# Altium footprint library dvl.PcbLib: 2 footprints
Each footprint in its own frame and in the unit in brackets; x right, y up, seen from the top. Pads: shape width x height; smd on the part's side, far side on the other; paste and mask are expansions set on the pad; w line width, h text height; cw(c..) or ccw(c..) is an arc to the next point about the centre after c.
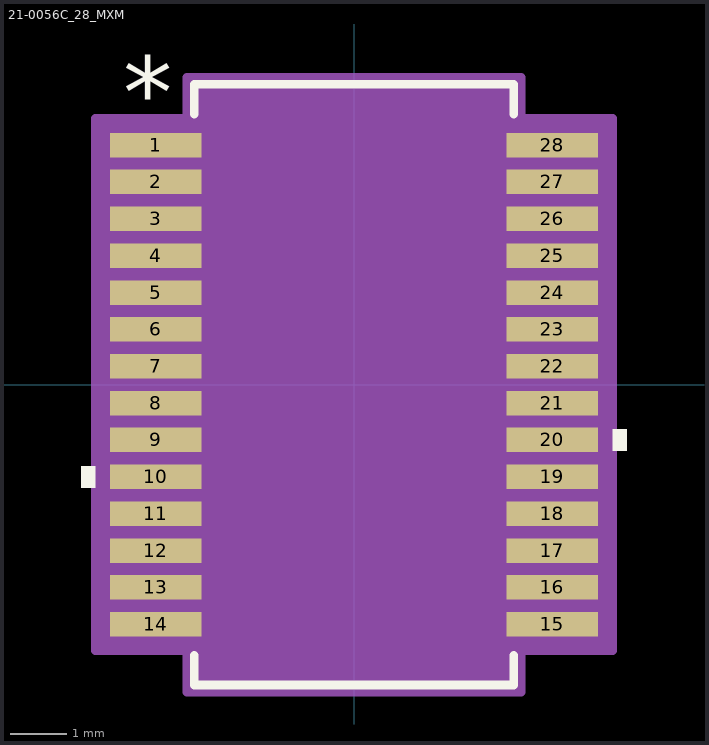
[diagram p0: the footprints below, top view; thin cyan lines are the x and y axes]

## 21-0056C_28_MXM [mil]
pads (28):
  rect 63.5x17 smd paste+0 mask+0: 1(-137.75,166.34) 2(-137.75,140.75) 3(-137.75,115.16) 4(-137.75,89.57) 5(-137.75,63.98) 6(-137.75,38.39) 7(-137.75,12.8) 8(-137.75,-12.8) 9(-137.75,-38.39) 10(-137.75,-63.98) 11(-137.75,-89.57) 12(-137.75,-115.16) 13(-137.75,-140.75) 14(-137.75,-166.34) 15(137.75,-166.34) 16(137.75,-140.75) 17(137.75,-115.16) 18(137.75,-89.57) 19(137.75,-63.98) 20(137.75,-38.39) 21(137.75,-12.8) 22(137.75,12.8) 23(137.75,38.39) 24(137.75,63.98) 25(137.75,89.57) 26(137.75,115.16) 27(137.75,140.75) 28(137.75,166.34)
Top Overlay:
  region: -179.5,-56.48 -189.5,-56.48 -189.5,-71.48 -179.5,-71.48
  region: 179.5,-30.89 189.5,-30.89 189.5,-45.89 179.5,-45.89
  lines w6: -111,-187.94 -111,-208.5 111,-208.5 111,-187.94 ; -111,187.94 -111,208.5 111,208.5 111,187.94
  text "*" at -160.25,178.34 h50
Mechanical 13:
  lines w0: -12,203.5 ccw(c0,203.5) 12,203.5
  lines w1: -155.5,-173.84 -155.5,-158.84 -106,-158.84 -106,-173.84 -155.5,-173.84 ; -155.5,-148.25 -155.5,-133.25 -106,-133.25 -106,-148.25 -155.5,-148.25 ; -155.5,-122.66 -155.5,-107.66 -106,-107.66 -106,-122.66 -155.5,-122.66 ; -155.5,-97.07 -155.5,-82.07 -106,-82.07 -106,-97.07 -155.5,-97.07 ; -155.5,-71.48 -155.5,-56.48 -106,-56.48 -106,-71.48 -155.5,-71.48 ; -155.5,-45.89 -155.5,-30.89 -106,-30.89 -106,-45.89 -155.5,-45.89 ; -155.5,-20.3 -155.5,-5.3 -106,-5.3 -106,-20.3 -155.5,-20.3 ; -155.5,5.3 -155.5,20.3 -106,20.3 -106,5.3 -155.5,5.3 ; -155.5,30.89 -155.5,45.89 -106,45.89 -106,30.89 -155.5,30.89 ; -155.5,56.48 -155.5,71.48 -106,71.48 -106,56.48 -155.5,56.48 ; -155.5,82.07 -155.5,97.07 -106,97.07 -106,82.07 -155.5,82.07 ; -155.5,107.66 -155.5,122.66 -106,122.66 -106,107.66 -155.5,107.66 ; -155.5,133.25 -155.5,148.25 -106,148.25 -106,133.25 -155.5,133.25 ; -155.5,158.84 -155.5,173.84 -106,173.84 -106,158.84 -155.5,158.84 ; -106,-203.5 106,-203.5 106,203.5 -106,203.5 -106,-203.5 ; 106,-173.84 106,-158.84 155.5,-158.84 155.5,-173.84 106,-173.84 ; 106,-148.25 106,-133.25 155.5,-133.25 155.5,-148.25 106,-148.25 ; 106,-122.66 106,-107.66 155.5,-107.66 155.5,-122.66 106,-122.66 ; 106,-97.07 106,-82.07 155.5,-82.07 155.5,-97.07 106,-97.07 ; 106,-71.48 106,-56.48 155.5,-56.48 155.5,-71.48 106,-71.48 ; 106,-45.89 106,-30.89 155.5,-30.89 155.5,-45.89 106,-45.89 ; 106,-20.3 106,-5.3 155.5,-5.3 155.5,-20.3 106,-20.3 ; 106,5.3 106,20.3 155.5,20.3 155.5,5.3 106,5.3 ; 106,30.89 106,45.89 155.5,45.89 155.5,30.89 106,30.89 ; 106,56.48 106,71.48 155.5,71.48 155.5,56.48 106,56.48 ; 106,82.07 106,97.07 155.5,97.07 155.5,82.07 106,82.07 ; 106,107.66 106,122.66 155.5,122.66 155.5,107.66 106,107.66 ; 106,133.25 106,148.25 155.5,148.25 155.5,133.25 106,133.25 ; 106,158.84 106,173.84 155.5,173.84 155.5,158.84 106,158.84
  text "*" at -103.5,150.5 h50
Mechanical 15:
  region: -116,-184.84 -179.5,-184.84 -179.5,184.84 -116,184.84 -116,213.5 116,213.5 116,184.84 179.5,184.84 179.5,-184.84 116,-184.84 116,-213.5 -116,-213.5
  lines w6: -179.5,-184.84 -179.5,184.84 -116,184.84 -116,213.5 116,213.5 116,184.84 179.5,184.84 179.5,-184.84 116,-184.84 116,-213.5 -116,-213.5 -116,-184.84 -179.5,-184.84
3D body "21-0056C_28_MXM.step": height 78.11, standoff 0, extent -155.51,-203.5 155.51,203.5

## PCBComponent_1 [mm]